# Altium schematic symbol library QUTMS_TrimmerLibrary.schlib: 3 symbols
Pins are listed as number, name and electrical type; pins without a type are passive.

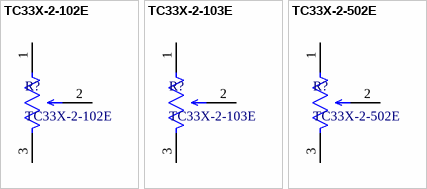
[diagram p0: symbols TC33X-2-102E to TC33X-2-502E]

## TC33X-2-102E
designator R?
1 kOhms 0.1W, 1/10W J Lead Surface Mount Trimmer Potentiometer Cermet 1 Turn Top Adjustment
footprint TC33 (3 mm SMD Trimpot® Trimming Potentiometer)
pins: 1, 2, 3

## TC33X-2-103E
designator R?
10 kOhms 0.1W, 1/10W J Lead Surface Mount Trimmer Potentiometer Cermet 1 Turn Top Adjustment
footprint TC33 (3 mm SMD Trimpot® Trimming Potentiometer)
pins: 1, 2, 3

## TC33X-2-502E
designator R?
5 kOhms 0.1W, 1/10W J Lead Surface Mount Trimmer Potentiometer Cermet 1 Turn Top Adjustment
pins: 1, 2, 3